# EAGLE library part HDMI-MICRO (library harrison)
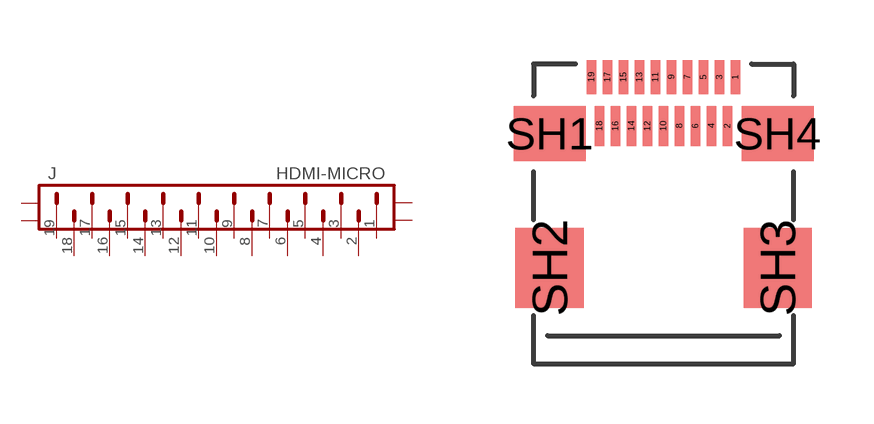
[diagram p69: symbol with the pads of HDMI_MICRO_SMD; footprint HDMI_MICRO_SMD]

Designator prefix J

## HDMI-MICRO  [HDMI_MICRO_SMD]
1  1  pas
2  2  pas
3  3  pas
4  4  pas
5  5  pas
6  6  pas
7  7  pas
8  8  pas
9  9  pas
10  10  pas
11  11  pas
12  12  pas
13  13  pas
14  14  pas
15  15  pas
16  16  pas
17  17  pas
18  18  pas
19  19  pas
SH1  SH1  pas
SH2  SH2  pas
SH3  SH3  pas
SH4  SH4  pas

## Footprint HDMI_MICRO_SMD (pad centres in mm)
smd 0.23 x 0.85: 1 1.8,3.475; 3 1.4,3.475; 5 1,3.475; 7 0.6,3.475; 9 0.2,3.475; 11 -0.2,3.475; 13 -0.6,3.475; 15 -1,3.475; 17 -1.4,3.475; 19 -1.8,3.475
smd 0.23 x 1: 2 1.6,2.25; 4 1.2,2.25; 6 0.8,2.25; 8 0.4,2.25; 10 0,2.25; 12 -0.4,2.25; 14 -0.8,2.25; 16 -1.2,2.25; 18 -1.6,2.25
smd 1.8 x 1.38: SH1 -2.85,2.06; SH4 2.85,2.06
smd 1.7 x 2: SH2 -2.85,-1.3; SH3 2.85,-1.3